# Altium schematic symbol library MySchlib.SchLib: 13 symbols
Pins are listed as number, name and electrical type; pins without a type are passive.

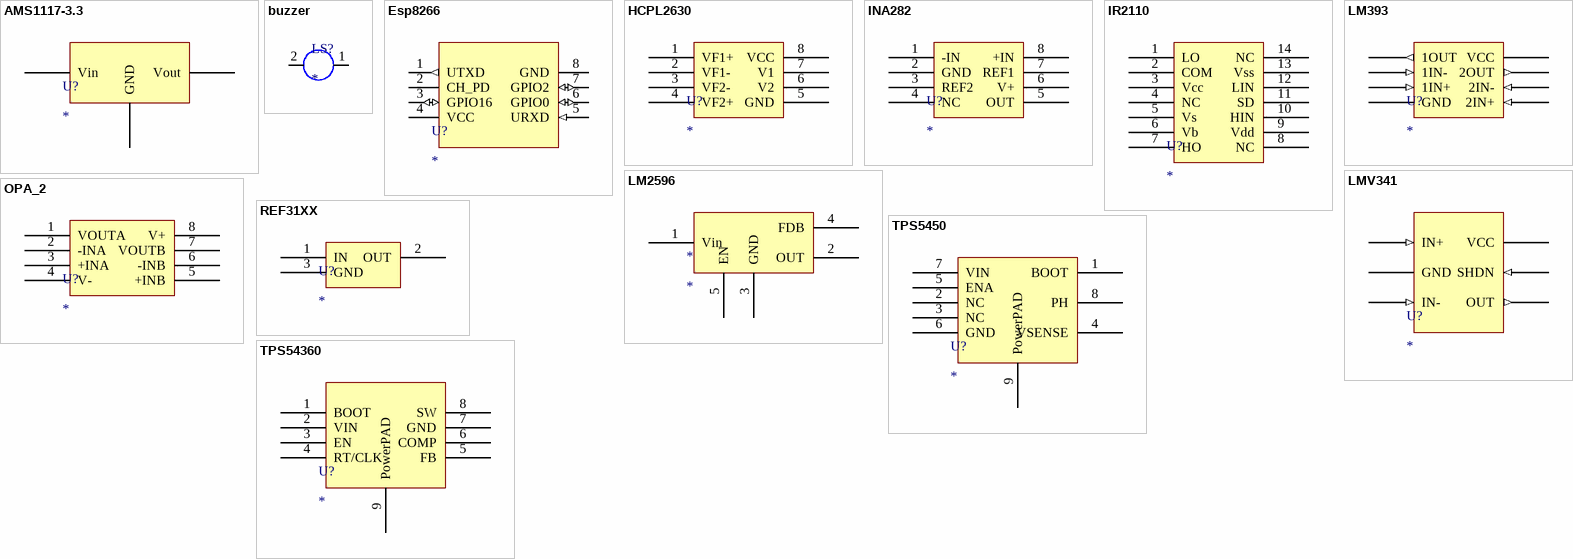
[diagram p0: symbols AMS1117-3.3 to TPS54360]

## AMS1117-3.3
designator U?
footprint SOT223-4N (SOT223, 4-Leads, Body 6.5x3.5mm, Pitch 2.3mm, Lead Span 7mm, IPC Medium Density)
pins: 1 GND, 2 Vout, 3 Vin

## buzzer
designator LS?
footprint buzzer
pins: 1 VCC, 2 GND

## Esp8266
designator U?
footprint Esp8266
pins: 1 UTXD (out), 2 CH_PD, 3 GPIO16 (io), 4 VCC (power), 5 URXD (in), 6 GPIO0 (io), 7 GPIO2 (io), 8 GND (power)

## HCPL2630
designator U?
footprint DIP-14 (Footprint not found)
pins: 1 VF1+, 2 VF1-, 3 VF2-, 4 VF2+, 5 GND, 6 V2, 7 V1, 8 VCC

## INA282
designator U?
footprint SOIC
pins: 1 -IN, 2 GND, 3 REF2, 4 NC, 5 OUT, 6 V+, 7 REF1, 8 +IN

## IR2110
designator U?
footprint DIP-14 (Footprint not found)
pins: 1 LO, 2 COM, 3 Vcc, 4 NC, 5 Vs, 6 Vb, 7 HO, 8 NC, 9 Vdd, 10 HIN, 11 SD, 12 LIN, 13 Vss, 14 NC

## LM393
designator U?
footprint DIP-8 (Footprint not found)
pins: 1 1OUT (out), 2 1IN- (in), 3 1IN+ (in), 4 GND (power), 5 2IN+ (in), 6 2IN- (in), 7 2OUT (out), 8 VCC (power)

## LM2596
designator *
pins: 1 Vin, 2 OUT, 3 GND, 4 FDB, 5 EN

## LMV341
designator U?
footprint SOT23-6_N (Footprint not found)
pins: 1 IN+ (in), 2 GND (power), 3 IN- (in), 4 OUT (out), 5 SHDN (in), 6 VCC (power)

## OPA_2
designator U?
footprint SOIC
pins: 1 VOUTA, 2 -INA, 3 +INA, 4 V-, 5 +INB, 6 -INB, 7 VOUTB, 8 V+

## REF31XX
designator U?
footprint SOT23-3
pins: 1 IN, 2 OUT, 3 GND

## TPS5450
designator U?
footprint TPS5450
pins: 1 BOOT, 2 NC, 3 NC, 4 VSENSE, 5 ENA, 6 GND, 7 VIN, 8 PH, 9 PowerPAD

## TPS54360
designator U?
footprint TPS5450
pins: 1 BOOT, 2 VIN, 3 EN, 4 RT/CLK, 5 FB, 6 COMP, 7 GND, 8 SW, 9 PowerPAD